# Altium integrated library VLMG1500-GS08.IntLib: 1 symbol
Pins are listed as number, name and electrical type; pins without a type are passive.

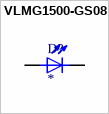
[diagram p0: symbol VLMG1500-GS08]

## VLMG1500-GS08
designator D?
Yellow-Green 571nm LED Indication - Discrete 2V 0402 (1005 Metric); MF: Vishay; MP: VLMG1500-GS08; SnapEDA_Link: https://www.snapeda.com/parts/VLMG1500-GS08/Vishay+Semiconductor+Opto+Division/view-part/?ref=snap; Package: Connector; Value: *; Check_prices: https://www.snapeda.com/parts/VLMG1500-GS08/Vishay+Semiconductor+Opto+Division/view-part/?ref=eda
footprint LEDC1005X35N
pins: 1, 2